# EAGLE library part VENUS822A (library skytraq)
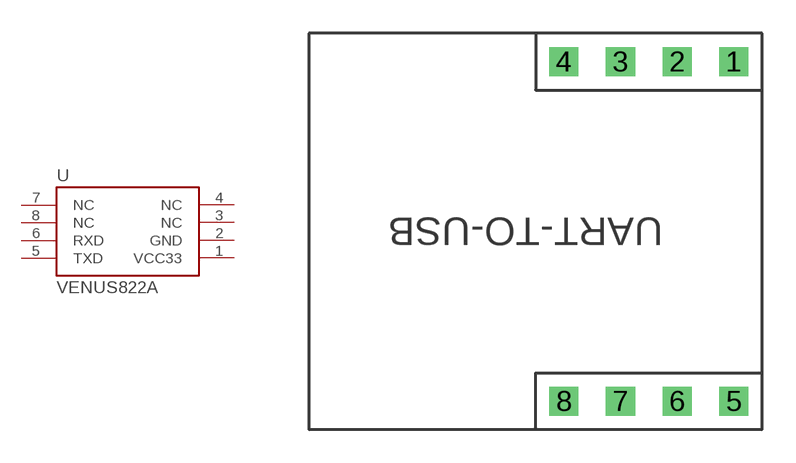
[diagram p1: symbol with the pads of UART-TO-USB; footprint UART-TO-USB]

Designator prefix -

## VENUS822A  [UART-TO-USB]
1  VCC33
2  GND
3  NC
4  NC
5  TXD
6  RXD
7  NC
8  NC

## Footprint UART-TO-USB (pad centres in mm)
drill 0.8 square: 1 19.05,16.51; 2 16.51,16.51; 3 13.97,16.51; 4 11.43,16.51; 5 19.05,1.27; 6 16.51,1.27; 7 13.97,1.27; 8 11.43,1.27